# Altium footprint library 针式跳线.PcbLib: 23 footprints (part 1 of 2)
Each footprint in its own frame and in the unit in brackets; x right, y up, seen from the top. Pads: shape width x height; smd on the part's side, far side on the other; paste and mask are expansions set on the pad; w line width, h text height; cw(c..) or ccw(c..) is an arc to the next point about the centre after c.
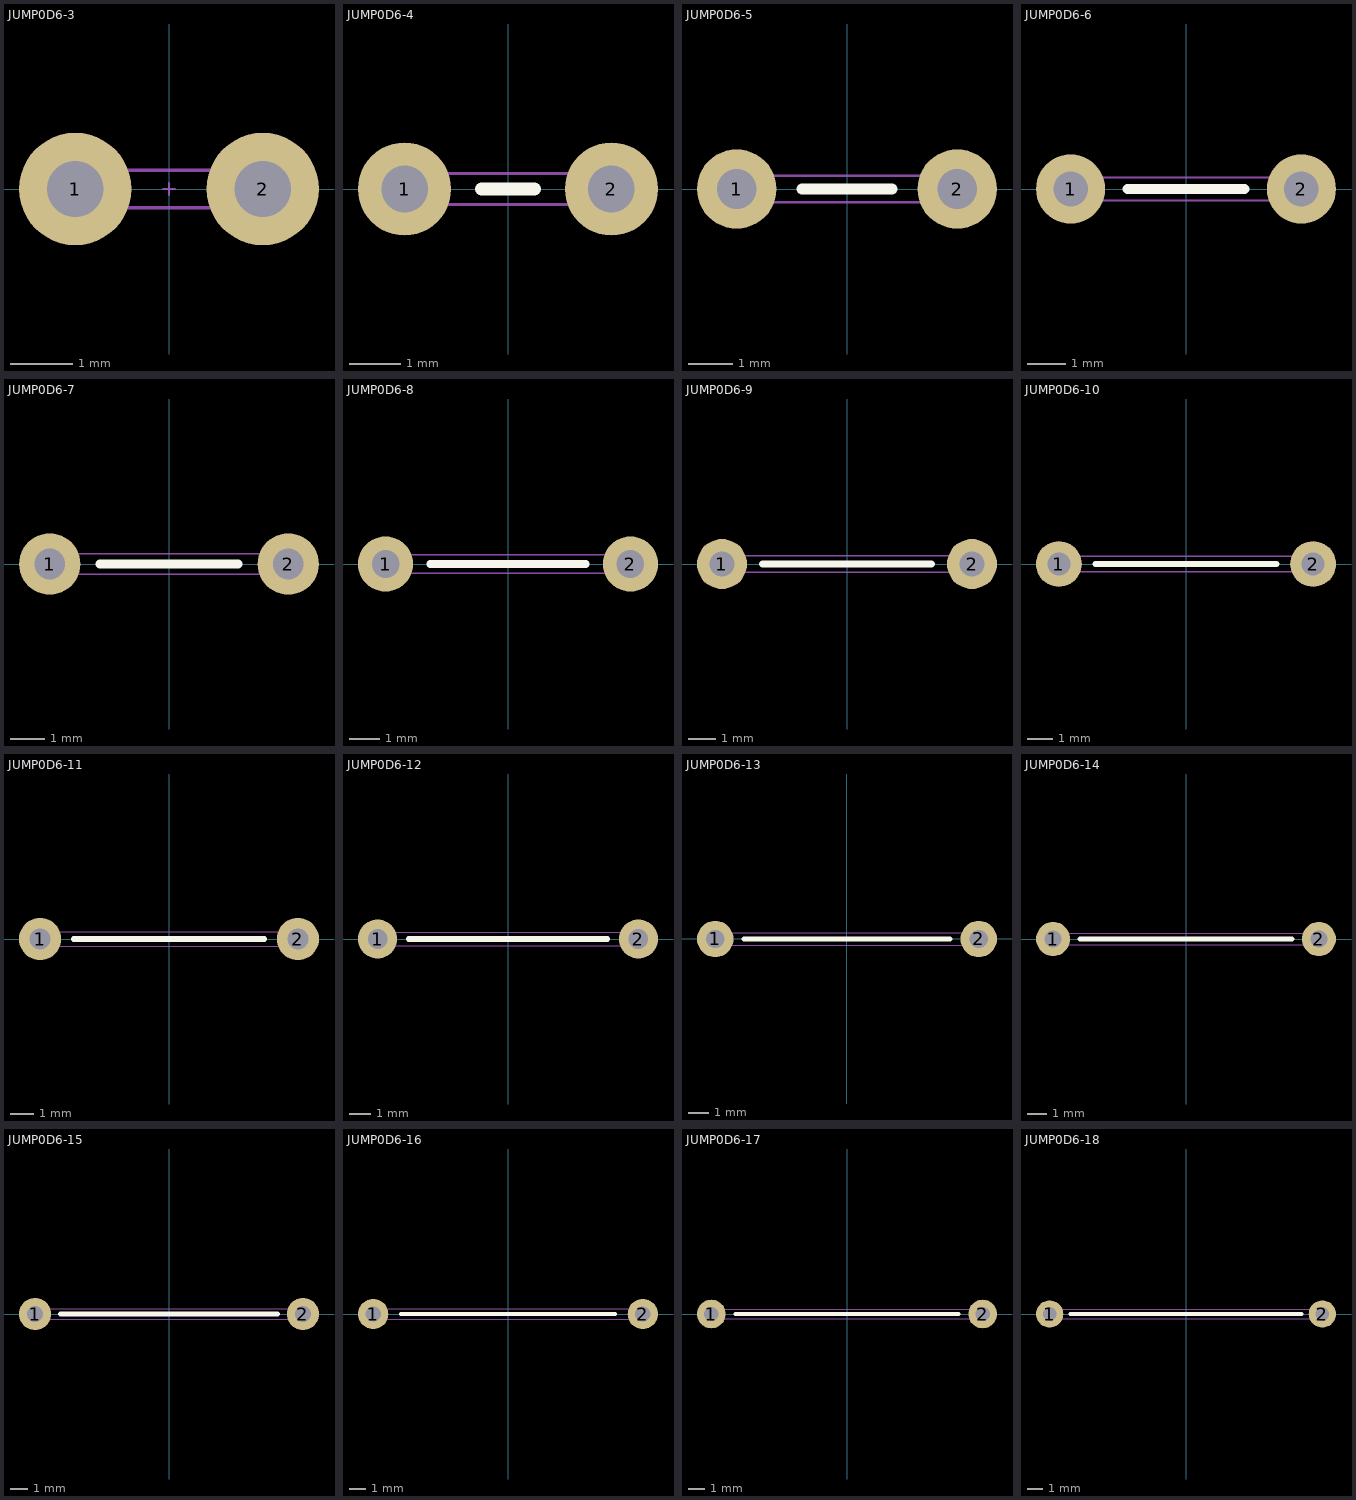
[diagram p0: the footprints below, top view; thin cyan lines are the x and y axes]

## JUMP0D6-3 [mm] "跳线"
height 1.5
pads (2):
  round 1.8 hole 0.9: 1(-1.5,0) 2(1.5,0)
Mechanical 13:
  lines w0.05: -1.8,-0.3 1.8,-0.3 1.8,0.3 -1.8,0.3 -1.8,-0.3
Mechanical 15:
  lines w0.025: -0.1,0 0.1,0 ; 0,-0.1 0,0.1
3D body: height 1.3, standoff -3.5, extent -1.8,-0.3 1.8,0.3

## JUMP0D6-4 [mm] "跳线"
height 1.5
pads (2):
  round 1.8 hole 0.9: 1(-2,0) 2(2,0)
Top Overlay:
  lines w0.254: -0.508,0 0.508,0
Mechanical 13:
  lines w0.05: -2.3,-0.3 2.3,-0.3 2.3,0.3 -2.3,0.3 -2.3,-0.3
Mechanical 15:
  lines w0.025: -0.1,0 0.1,0 ; 0,-0.1 0,0.1
3D body: height 1.3, standoff -3.5, extent -2.3,-0.3 2.3,0.3

## JUMP0D6-5 [mm] "跳线"
height 1.5
pads (2):
  round 1.8 hole 0.9: 1(-2.5,0) 2(2.5,0)
Top Overlay:
  lines w0.254: -1.016,0 1.016,0
Mechanical 13:
  lines w0.05: -2.8,-0.3 -2.8,0.3 2.8,0.3 2.8,-0.3 -2.8,-0.3
Mechanical 15:
  lines w0.025: -0.1,0 0.1,0 ; 0,-0.1 0,0.1
3D body: height 1.3, standoff -3.5, extent -2.8,-0.3 2.8,0.3

## JUMP0D6-6 [mm] "跳线"
height 1.5
pads (2):
  round 1.8 hole 0.9: 1(-3,0) 2(3,0)
Top Overlay:
  lines w0.254: -1.524,0 1.524,0
Mechanical 13:
  lines w0.05: -3.3,-0.3 3.3,-0.3 3.3,0.3 -3.3,0.3 -3.3,-0.3
Mechanical 15:
  lines w0.025: -0.1,0 0.1,0 ; 0,-0.1 0,0.1
3D body: height 1.3, standoff -3.5, extent -3.3,-0.3 3.3,0.3

## JUMP0D6-7 [mm] "跳线"
height 1.5
pads (2):
  round 1.8 hole 0.9: 1(-3.5,0) 2(3.5,0)
Top Overlay:
  lines w0.254: -2.032,0 2.032,0
Mechanical 13:
  lines w0.05: -3.8,-0.3 3.8,-0.3 3.8,0.3 -3.8,0.3 -3.8,-0.3
Mechanical 15:
  lines w0.025: -0.1,0 0.1,0 ; 0,-0.1 0,0.1
3D body: height 1.3, standoff -3.5, extent -3.8,-0.3 3.8,0.3

## JUMP0D6-8 [mm] "跳线"
height 1.5
pads (2):
  round 1.8 hole 0.9: 1(-4,0) 2(4,0)
Top Overlay:
  lines w0.254: -2.54,0 2.54,0
Mechanical 13:
  lines w0.05: -4.3,-0.3 -4.3,0.3 4.3,0.3 4.3,-0.3 -4.3,-0.3
Mechanical 15:
  lines w0.025: -0.1,0 0.1,0 ; 0,-0.1 0,0.1
3D body: height 1.3, standoff -3.5, extent -4.3,-0.3 4.3,0.3

## JUMP0D6-9 [mm] "跳线"
height 1.5
pads (2):
  round 1.8 hole 0.9: 1(-4.5,0) 2(4.5,0)
Top Overlay:
  lines w0.254: -3.048,0 3.048,0
Mechanical 13:
  lines w0.05: -4.8,-0.3 -4.8,0.3 4.8,0.3 4.8,-0.3 -4.8,-0.3
Mechanical 15:
  lines w0.025: -0.1,0 0.1,0 ; 0,-0.1 0,0.1
3D body: height 1.3, standoff -3.5, extent -4.8,-0.3 4.8,0.3

## JUMP0D6-10 [mm] "跳线"
height 1.5
pads (2):
  round 1.8 hole 0.9: 1(-5,0) 2(5,0)
Top Overlay:
  lines w0.254: -3.556,0 3.556,0
Mechanical 13:
  lines w0.05: -5.3,-0.3 5.3,-0.3 5.3,0.3 -5.3,0.3 -5.3,-0.3
Mechanical 15:
  lines w0.025: -0.1,0 0.1,0 ; 0,-0.1 0,0.1
3D body: height 1.3, standoff -3.5, extent -5.3,-0.3 5.3,0.3

## JUMP0D6-11 [mm] "跳线"
height 1.5
pads (2):
  round 1.8 hole 0.9: 1(-5.5,0) 2(5.5,0)
Top Overlay:
  lines w0.254: -4.064,0 4.064,0
Mechanical 13:
  lines w0.05: -5.8,-0.3 -5.8,0.3 5.8,0.3 5.8,-0.3 -5.8,-0.3
Mechanical 15:
  lines w0.025: -0.1,0 0.1,0 ; 0,-0.1 0,0.1
3D body: height 1.3, standoff -3.5, extent -5.8,-0.3 5.8,0.3

## JUMP0D6-12 [mm] "跳线"
height 1.5
pads (2):
  round 1.8 hole 0.9: 1(-6,0) 2(6,0)
Top Overlay:
  lines w0.254: -4.572,0 4.572,0
Mechanical 13:
  lines w0.05: -6.3,-0.3 6.3,-0.3 6.3,0.3 -6.3,0.3 -6.3,-0.3
Mechanical 15:
  lines w0.025: -0.1,0 0.1,0 ; 0,-0.1 0,0.1
3D body: height 1.3, standoff -3.5, extent -6.3,-0.3 6.3,0.3

## JUMP0D6-13 [mm] "跳线"
height 1.5
pads (2):
  round 1.8 hole 0.9: 1(-6.5,0) 2(6.5,0)
Top Overlay:
  lines w0.254: -5.08,0 5.08,0
Mechanical 13:
  lines w0.05: -6.8,-0.3 -6.8,0.3 6.8,0.3 6.8,-0.3 -6.8,-0.3
Mechanical 15:
  lines w0.025: -0.1,0 0.1,0 ; 0,-0.1 0,0.1
3D body: height 1.3, standoff -3.5, extent -6.8,-0.3 6.8,0.3

## JUMP0D6-14 [mm] "跳线"
height 1.5
pads (2):
  round 1.8 hole 0.9: 1(-7,0) 2(7,0)
Top Overlay:
  lines w0.254: -5.588,0 5.588,0
Mechanical 13:
  lines w0.05: -7.3,-0.3 -7.3,0.3 7.3,0.3 7.3,-0.3 -7.3,-0.3
Mechanical 15:
  lines w0.025: -0.1,0 0.1,0 ; 0,-0.1 0,0.1
3D body: height 1.3, standoff -3.5, extent -7.3,-0.3 7.3,0.3

## JUMP0D6-15 [mm] "跳线"
height 1.5
pads (2):
  round 1.8 hole 0.9: 1(-7.5,0) 2(7.5,0)
Top Overlay:
  lines w0.254: -6.096,0 6.096,0
Mechanical 13:
  lines w0.05: -7.8,-0.3 -7.8,0.3 7.8,0.3 7.8,-0.3 -7.8,-0.3
Mechanical 15:
  lines w0.025: -0.1,0 0.1,0 ; 0,-0.1 0,0.1
3D body: height 1.3, standoff -3.5, extent -7.8,-0.3 7.8,0.3

## JUMP0D6-16 [mm] "跳线"
height 1.5
pads (2):
  round 1.8 hole 0.9: 1(-8,0) 2(8,0)
Top Overlay:
  lines w0.254: -6.35,0 6.35,0
Mechanical 13:
  lines w0.05: -8.3,-0.3 8.3,-0.3 8.3,0.3 -8.3,0.3 -8.3,-0.3
Mechanical 15:
  lines w0.025: -0.1,0 0.1,0 ; 0,-0.1 0,0.1
3D body: height 1.3, standoff -3.5, extent -8.3,-0.3 8.3,0.3

## JUMP0D6-17 [mm] "跳线"
height 1.5
pads (2):
  round 1.8 hole 0.9: 1(-8.5,0) 2(8.5,0)
Top Overlay:
  lines w0.254: -6.985,0 6.985,0
Mechanical 13:
  lines w0.05: -8.8,-0.3 8.8,-0.3 8.8,0.3 -8.8,0.3 -8.8,-0.3
Mechanical 15:
  lines w0.025: -0.1,0 0.1,0 ; 0,-0.1 0,0.1
3D body: height 1.3, standoff -3.5, extent -8.8,-0.3 8.8,0.3

## JUMP0D6-18 [mm] "跳线"
height 1.5
pads (2):
  round 1.8 hole 0.9: 1(-9,0) 2(9,0)
Top Overlay:
  lines w0.254: -7.62,0 7.62,0
Mechanical 13:
  lines w0.05: -9.3,-0.3 -9.3,0.3 9.3,0.3 9.3,-0.3 -9.3,-0.3
Mechanical 15:
  lines w0.025: -0.1,0 0.1,0 ; 0,-0.1 0,0.1
3D body: height 1.3, standoff -3.5, extent -9.3,-0.3 9.3,0.3